# Altium schematic symbol library Y_Capacitor.Schlib: 1 symbol
Pins are listed as number, name and electrical type; pins without a type are passive.

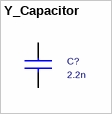
[diagram p0: symbol Y_Capacitor]

## Y_Capacitor
designator C?, comment 2.2n
pins: 1, 2